# Altium footprint library A7670C.PcbLib: 1 footprints
Each footprint in its own frame and in the unit in brackets; x right, y up, seen from the top. Pads: shape width x height; smd on the part's side, far side on the other; paste and mask are expansions set on the pad; w line width, h text height; cw(c..) or ccw(c..) is an arc to the next point about the centre after c.
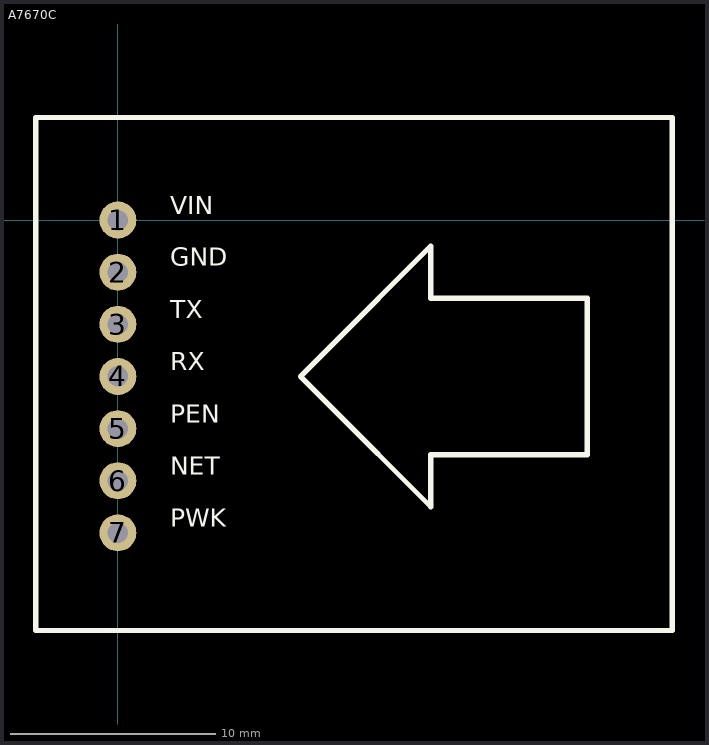
[diagram p0: the footprint, top view; thin cyan lines are the x and y axes]

## A7670C [mm]
pads (7):
  round 1.8 hole 1: 1(0,0) 2(0,-2.54) 3(0,-5.08) 4(0,-7.62) 5(0,-10.16) 6(0,-12.7) 7(0,-15.24)
Top Overlay:
  lines w0.254: -4,-20 27,-20 27,5 -4,5 -4,-20 ; 8.89,-7.62 10.16,-6.35 15.24,-1.27 15.24,-3.81 22.86,-3.81 22.86,-11.43 15.24,-11.43 15.24,-13.97 10.16,-8.89 8.89,-7.62
  text "NET" at 2.54,-12.7 h1.52
  text "PWK" at 2.54,-15.24 h1.52
  text "PEN" at 2.54,-10.16 h1.52
  text "RX" at 2.54,-7.62 h1.52
  text "TX" at 2.54,-5.08 h1.52
  text "GND" at 2.54,-2.523 h1.52
  text "VIN" at 2.541,0 h1.52